# EAGLE library part USD-SOCKET (library OSURC_Connectors)
Molex microSD socket Push-push type uSD socket. tDoc lines correctly indicate media card edge positions when inserting (unlocked, locked, depressed).
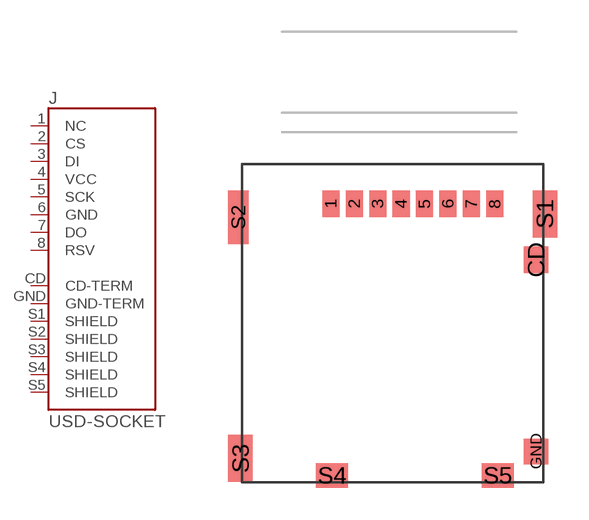
[diagram p0: symbol with the pads of USD-SOCKET-PP-MOLEX-503182; footprint USD-SOCKET-PP-MOLEX-503182]

Designator prefix J

## USD-SOCKET-MOLEX-503182 (DIGIKEY_PN: WM9750CT-ND)  [USD-SOCKET-PP-MOLEX-503182]
1  NC
2  CS
3  DI
4  VCC
5  SCK
6  GND
7  DO
8  RSV
CD  CD-TERM
GND  GND-TERM
S1  SHIELD
S2  SHIELD
S3  SHIELD
S4  SHIELD
S5  SHIELD

## Footprint USD-SOCKET-PP-MOLEX-503182 (pad centres in mm)
smd 0.8 x 1.24: 1 4.82,-0.62; 2 5.92,-0.62; 3 7.02,-0.62; 4 8.12,-0.62; 5 9.22,-0.62; 6 10.32,-0.62; 7 11.42,-0.62; 8 12.52,-0.62
smd 1.16 x 1.25: CD 14.46,-3.25
smd 1.16 x 1.2: GND 14.46,-12.25
smd 1.15 x 2.2: S1 14.865,-1.1; S3 0.575,-12.58
smd 0.95 x 2.5: S2 0.475,-1.25
smd 1.5 x 1.15: S4 4.88,-13.375; S5 12.66,-13.375